# Altium schematic symbol library SamacSys.SchLib: 17 symbols
Pins are listed as number, name and electrical type; pins without a type are passive.

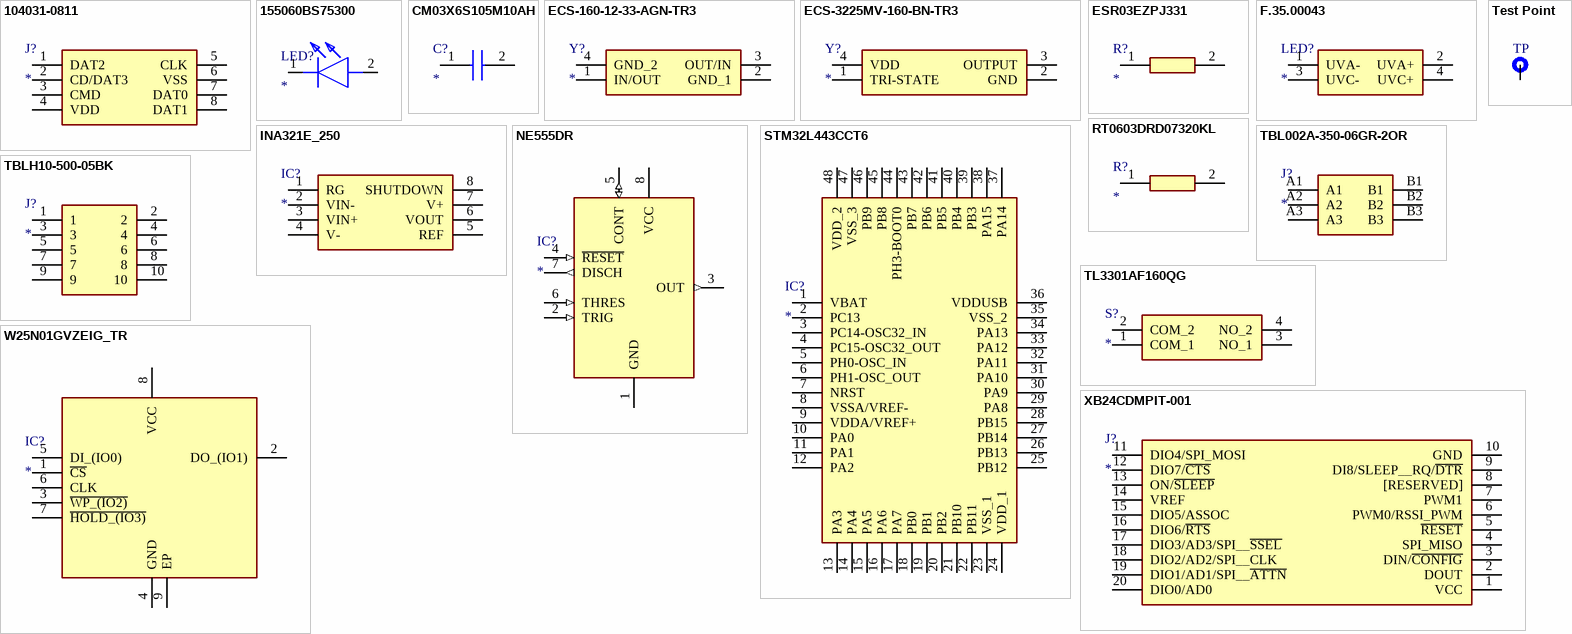
[diagram p0: symbols 104031-0811 to XB24CDMPIT-001]

## 104031-0811
designator J?
Connector; Manufacturer_Name: Molex; Manufacturer_Part_Number: 104031-0811; Datasheet Link: http://www.molex.com/webdocs/datasheets/pdf/en-us/1040310811_MEMORY_CARD_SOCKET.pdf; Mouser Part Number: 538-104031-0811; Mouser Price/Stock: https://www.mouser.co.uk/ProductDetail/Molex/104031-0811?qs=udsGRKD4nA3Tvy7wqky%252BuA%3D%3D
footprint 1040310811
pins: 1 DAT2, 2 CD/DAT3, 3 CMD, 4 VDD, 5 CLK, 6 VSS, 7 DAT0, 8 DAT1

## 155060BS75300
designator LED?
LED; Manufacturer_Name: Wurth Elektronik; Manufacturer_Part_Number: 155060BS75300; Datasheet Link: https://www.mouser.fr/datasheet/2/445/155060BS75300-1838907.pdf; Height: 1mm; Mouser Part Number: 710-155060BS75300; Mouser Price/Stock: https://www.mouser.co.uk/ProductDetail/Wurth-Elektronik/155060BS75300?qs=GedFDFLaBXFE8klTFAyuFA%3D%3D
footprint 155060BS75300
pins: 1 K, 2 A

## CM03X6S105M10AH
designator C?
Capacitor; Manufacturer_Name: Kyocera AVX; Manufacturer_Part_Number: CM03X6S105M10AH; Datasheet Link: https://www.mouser.in/datasheet/2/40/Kyocera_CM__STD__series2_052920-2585758.pdf; Height: 0.39mm; Mouser Part Number: 346-CM03X6S105M10AH; Mouser Price/Stock: https://www.mouser.co.uk/ProductDetail/Kyocera-AVX/CM03X6S105M10AH?qs=7MVldsJ5UawEuMlpn8GvdA%3D%3D
footprint CM03X6S105M10AH
pins: 1, 2

## ECS-160-12-33-AGN-TR3
designator Y?
Crystal or Oscillator; Manufacturer_Name: ECS; Manufacturer_Part_Number: ECS-160-12-33-AGN-TR3; Datasheet Link: https://ecsxtal.com/store/pdf/ecx-32.pdf; Height: 0.8mm; Mouser Part Number: 520-160-12-33AGN-TR3; Mouser Price/Stock: https://www.mouser.co.uk/ProductDetail/ECS/ECS-160-12-33-AGN-TR3?qs=e8oIoAS2J1R5dXUdgVaN0g%3D%3D; Arrow Part Number: ECS-160-12-33-AGN-TR3; Arrow Price/Stock: https://www.arrow.com/en/products/ecs-160-12-33-agn-tr3/ecs-international?region=nac
footprint ECS1601233AGNTR3
pins: 1 IN/OUT, 2 GND_1, 3 OUT/IN, 4 GND_2

## ECS-3225MV-160-BN-TR3
designator Y?
Crystal or Oscillator; Manufacturer_Name: ECS; Manufacturer_Part_Number: ECS-3225MV-160-BN-TR3; Datasheet Link: https://www.mouser.com/ProductDetail/ECS/ECS-3225MV-160-BN-TR3?qs=Wj%2FVkw3K%252BMAWvHAHqx6j5g%3D%3D; Height: 1.2mm; Mouser Part Number: 520-3225MV160-BN-TR3; Mouser Price/Stock: https://www.mouser.co.uk/ProductDetail/ECS/ECS-3225MV-160-BN-TR3?qs=Wj%2FVkw3K%252BMAWvHAHqx6j5g%3D%3D
footprint ECS3225MV160BNTR3
pins: 1 TRI-STATE, 2 GND, 3 OUTPUT, 4 VDD

## ESR03EZPJ331
designator R?
Resistor; Manufacturer_Name: ROHM Semiconductor; Manufacturer_Part_Number: ESR03EZPJ331; Datasheet Link: https://componentsearchengine.com/Datasheets/1/ESR03EZPJ331.pdf; Height: 0.55mm; Mouser Part Number: 755-ESR03EZPJ331; Mouser Price/Stock: https://www.mouser.co.uk/ProductDetail/ROHM-Semiconductor/ESR03EZPJ331?qs=DyUWGjl%252BcVuEQIiw%252BHs%2F7g%3D%3D; Arrow Part Number: ESR03EZPJ331; Arrow Price/Stock: https://www.arrow.com/en/products/esr03ezpj331/rohm-semiconductor
footprint RESC1608X55N
pins: 1, 2

## F.35.00043
designator LED?
LED; Manufacturer_Name: TUOZHAN; Manufacturer_Part_Number: F.35.00043; Datasheet Link: https://datasheet.lcsc.com/lcsc/2010301508_TUOZHAN-F-35-00043_C909693.pdf; Height: 1.61mm
footprint F3500043
pins: 1 UVA-, 2 UVA+, 3 UVC-, 4 UVC+

## INA321E_250
designator IC?
Integrated Circuit; Manufacturer_Name: Texas Instruments; Manufacturer_Part_Number: INA321E/250; Datasheet Link: http://www.ti.com/lit/gpn/INA321; Height: 1.1mm; Mouser Part Number: 595-INA321E/250; Mouser Price/Stock: https://www.mouser.co.uk/ProductDetail/Texas-Instruments/INA321E-250?qs=VBduBm9rCJQvP7O6bMGalg%3D%3D; Arrow Part Number: INA321E/250; Arrow Price/Stock: https://www.arrow.com/en/products/ina321e250/texas-instruments
footprint SOP65P490X110-8N
pins: 1 RG, 2 VIN-, 3 VIN+, 4 V-, 5 REF, 6 VOUT, 7 V+, 8 SHUTDOWN

## NE555DR
designator IC?
Integrated Circuit; Manufacturer_Name: Texas Instruments; Manufacturer_Part_Number: NE555DR; Datasheet Link: http://www.ti.com/lit/ds/symlink/ne555.pdf; Height: 1.75mm; Mouser Part Number: 595-NE555DR; Mouser Price/Stock: https://www.mouser.com/Search/Refine.aspx?Keyword=595-NE555DR; RS Part Number: 1218414; RS Price/Stock: http://uk.rs-online.com/web/p/products/1218414
footprint SOIC127P600X175-8N
pins: 1 GND (power), 2 TRIG (in), 3 OUT (out), 4 ~{RESET} (in), 5 CONT (io), 6 THRES (in), 7 DISCH (out), 8 VCC (power)

## RT0603DRD07320KL
designator R?
Resistor; Manufacturer_Name: KEMET; Manufacturer_Part_Number: RT0603DRD07320KL; Datasheet Link: https://ms.componentsearchengine.com/Datasheets/1/RT0603DRD07320KL.pdf; Height: 0.55mm; Mouser Part Number: 603-RT0603DRD07320KL; Mouser Price/Stock: https://www.mouser.co.uk/ProductDetail/YAGEO/RT0603DRD07320KL?qs=ABvmyp11KkhJ2c1FEjGD5A%3D%3D
footprint RESC1608X55N
pins: 1, 2

## STM32L443CCT6
designator IC?
Integrated Circuit; Manufacturer_Name: STMicroelectronics; Manufacturer_Part_Number: STM32L443CCT6; Datasheet Link: https://componentsearchengine.com/Datasheets/2/STM32L443CCT6.pdf; Height: 1.6mm; Mouser Part Number: 511-STM32L443CCT6; Mouser Price/Stock: https://www.mouser.co.uk/ProductDetail/STMicroelectronics/STM32L443CCT6?qs=dTJS0cRn7ohLPtZ3IeJ%2Fbg%3D%3D; Arrow Part Number: STM32L443CCT6; Arrow Price/Stock: https://www.arrow.com/en/products/stm32l443cct6/stmicroelectronics?region=nac
footprint QFP50P900X900X160-48N
pins: 1 VBAT, 2 PC13, 3 PC14-OSC32_IN, 4 PC15-OSC32_OUT, 5 PH0-OSC_IN, 6 PH1-OSC_OUT, 7 NRST, 8 VSSA/VREF-, 9 VDDA/VREF+, 10 PA0, 11 PA1, 12 PA2, 13 PA3, 14 PA4, 15 PA5, 16 PA6, 17 PA7, 18 PB0, 19 PB1, 20 PB2, 21 PB10, 22 PB11, 23 VSS_1, 24 VDD_1, 25 PB12, 26 PB13, 27 PB14, 28 PB15, 29 PA8, 30 PA9, 31 PA10, 32 PA11, 33 PA12, 34 PA13, 35 VSS_2, 36 VDDUSB, 37 PA14, 38 PA15, 39 PB3, 40 PB4, 41 PB5, 42 PB6, 43 PB7, 44 PH3-BOOT0, 45 PB8, 46 PB9, 47 VSS_3, 48 VDD_2

## TBL002A-350-06GR-2OR
designator J?
Connector; Manufacturer_Name: CUI Inc.; Manufacturer_Part_Number: TBL002A-350-06GR-2OR; Datasheet Link: https://www.cuidevices.com/product/resource/tbl002a-350.pdf; Height: 13.25mm; Mouser Part Number: 490-TBL002A3506GR2OR; Mouser Price/Stock: https://www.mouser.co.uk/ProductDetail/CUI-Devices/TBL002A-350-06GR-2OR?qs=PzGy0jfpSMu5rCdCKGhANw%3D%3D; Arrow Part Number: TBL002A-350-06GR-2OR; Arrow Price/Stock: https://www.arrow.com/en/products/tbl002a-350-06gr-2or/cui-devices
footprint TBL002A35006GR2OR
pins: A1, A2, A3, B1, B2, B3

## TBLH10-500-05BK
designator J?
Connector; Manufacturer_Name: CUI Inc.; Manufacturer_Part_Number: TBLH10-500-05BK; Datasheet Link: https://nl.mouser.com/datasheet/2/670/tblh10_500-1651301.pdf; Height: 8.8mm; Mouser Part Number: 490-TBLH10-500-05BK; Mouser Price/Stock: https://www.mouser.co.uk/ProductDetail/CUI-Devices/TBLH10-500-05BK?qs=UXgszm6BlbEbDdyPKhVhZA%3D%3D
footprint TBLH1050005BK
pins: 1, 2, 3, 4, 5, 6, 7, 8, 9, 10

## Test Point
designator TP  (no BOM)
footprint Testpoint (Test point)
pins: TP 1

## TL3301AF160QG
designator S?
Switch; Manufacturer_Name: E-Switch; Manufacturer_Part_Number: TL3301AF160QG; Datasheet Link: https://www.mouser.com/datasheet/2/140/TL3301-346305.pdf; Height: 5mm; Mouser Part Number: 612-TL3301AF1; Mouser Price/Stock: https://www.mouser.co.uk/ProductDetail/E-Switch/TL3301AF160QG?qs=HKd%2Fp3M7KlXQ0u8cSVrt8w%3D%3D
footprint TL3301AF160QG
pins: 1 COM_1, 2 COM_2, 3 NO_1, 4 NO_2

## W25N01GVZEIG_TR
designator IC?
Integrated Circuit; Manufacturer_Name: Winbond; Manufacturer_Part_Number: W25N01GVZEIG TR; Datasheet Link: https://www.winbond.com/resource-files/w25n01gv revg 032116.pdf; Height: 0.8mm; Mouser Part Number: 454-W25N01GVZEIGTR; Mouser Price/Stock: https://www.mouser.co.uk/ProductDetail/Winbond/W25N01GVZEIG-TR?qs=qSfuJ%252Bfl%2Fd6niBi0Qz1MPg%3D%3D; Arrow Part Number: W25N01GVZEIG TR; Arrow Price/Stock: https://www.arrow.com/en/products/w25n01gvzeigtr/winbond-electronics?region=nac
footprint SON127P800X600X80-9N-D
pins: 1 ~{CS}, 2 DO_(IO1), 3 ~{WP_(IO2)}, 4 GND, 5 DI_(IO0), 6 CLK, 7 ~{HOLD_(IO3)}, 8 VCC, 9 EP

## XB24CDMPIT-001
designator J?
Connector; Manufacturer_Name: DIGI; Manufacturer_Part_Number: XB24CDMPIT-001; Datasheet Link: https://www.digi.com/pdf/ds_s2c-xbeedigimesh-24.pdf; Height: 3.556mm; Mouser Part Number: 888-XB24CDMPIT-001; Mouser Price/Stock: https://www.mouser.co.uk/ProductDetail/DIGI/XB24CDMPIT-001?qs=XmMZR4xR0DA19znDagFynA%3D%3D
footprint XB24CDMPIT001
pins: 1 VCC, 2 DOUT, 3 DIN/~{CONFIG}, 4 SPI_MISO, 5 ~{RESET}, 6 PWM0/RSSI_PWM, 7 PWM1, 8 [RESERVED], 9 DI8/SLEEP__RQ/~{DTR}, 10 GND, 11 DIO4/SPI_MOSI, 12 DIO7/~{CTS}, 13 ON/~{SLEEP}, 14 VREF, 15 DIO5/ASSOC, 16 DIO6/~{RTS}, 17 DIO3/AD3/SPI__~{SSEL}, 18 DIO2/AD2/SPI__CLK, 19 DIO1/AD1/SPI__~{ATTN}, 20 DIO0/AD0